# EAGLE library part HEADER_1X8 (library heck)
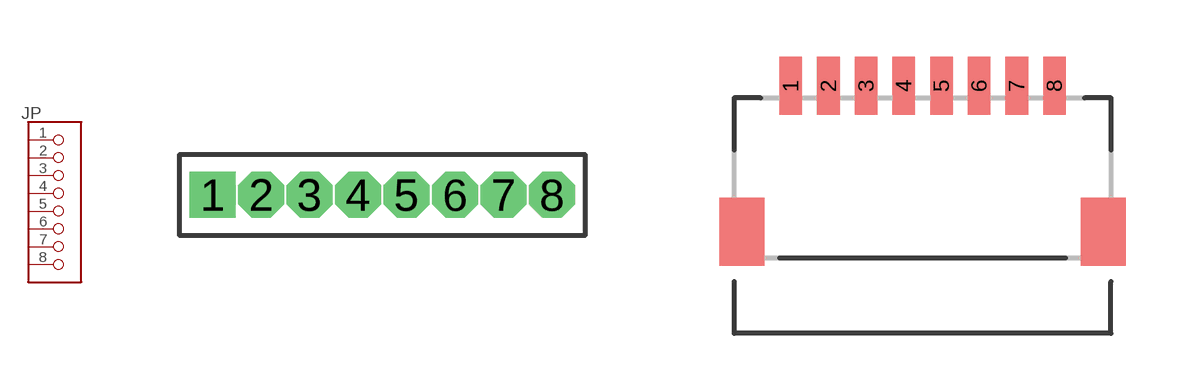
[diagram p13: symbol with the pads of HEADER_50MIL_1X8_PTH; footprints HEADER_50MIL_1X8_PTH, JST-SH_HEADER_HORIZONTAL_8]

Designator prefix JP

## HEADER_1X8_50MIL_PTH  [HEADER_50MIL_1X8_PTH]
1  1  pas
2  2  pas
3  3  pas
4  4  pas
5  5  pas
6  6  pas
7  7  pas
8  8  pas

## HEADER_1X8_JST-SH_HORIZONTAL  [JST-SH_HEADER_HORIZONTAL_8]
Pads as for HEADER_50MIL_1X8_PTH

## HEADER_1X8_JST-SH_HEADER_VERTICAL_8  [JST-SH_HEADER_VERTICAL_8]
Pads as for HEADER_50MIL_1X8_PTH

## HEADER_1X8_100MIL_PTH  [HEADER_100MIL_1X8]
Pads as for HEADER_50MIL_1X8_PTH

## Footprint HEADER_50MIL_1X8_PTH (pad centres in mm)
drill 0.7 pad 1.016 square: 1 -4.445,0
drill 0.7 pad 1.016 octagon: 2 -3.175,0; 3 -1.905,0; 4 -0.635,0; 5 0.635,0; 6 1.905,0; 7 3.175,0; 8 4.445,0

## Footprint JST-SH_HEADER_HORIZONTAL_8 (pad centres in mm)
smd 0.6 x 1.55: 1 -3.5,1.5; 2 -2.5,1.5; 3 -1.5,1.5; 4 -0.5,1.5; 5 0.5,1.5; 6 1.5,1.5; 7 2.5,1.5; 8 3.5,1.5

## Footprint JST-SH_HEADER_VERTICAL_8 (pad centres in mm)
smd 0.6 x 1.55: 1 -3.5,-1.825; 2 -2.5,-1.825; 3 -1.5,-1.825; 4 -0.5,-1.825; 5 0.5,-1.825; 6 1.5,-1.825; 7 2.5,-1.825; 8 3.5,-1.825

## Footprint HEADER_100MIL_1X8 (pad centres in mm)
drill 1.016 pad 1.88: 1 -8.89,0; 2 -6.35,0; 3 -3.81,0; 4 -1.27,0; 5 1.27,0; 6 3.81,0; 7 6.35,0; 8 8.89,0